# Altium footprint library SOIC127P600X175-16N.PcbLib: 1 footprints
Each footprint in its own frame and in the unit in brackets; x right, y up, seen from the top. Pads: shape width x height; smd on the part's side, far side on the other; paste and mask are expansions set on the pad; w line width, h text height; cw(c..) or ccw(c..) is an arc to the next point about the centre after c.
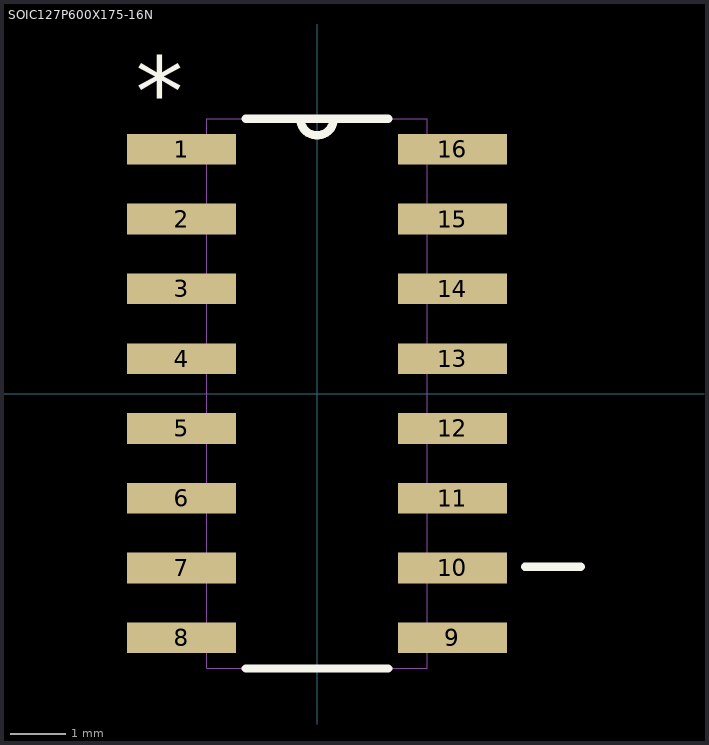
[diagram p0: the footprint, top view; thin cyan lines are the x and y axes]

## SOIC127P600X175-16N [mil]
pads (16):
  rect 78x22 smd: 1(-97,175) 2(-97,125) 3(-97,75) 4(-97,25) 5(-97,-25) 6(-97,-75) 7(-97,-125) 8(-97,-175) 9(97,-175) 10(97,-125) 11(97,-75) 12(97,-25) 13(97,25) 14(97,75) 15(97,125) 16(97,175)
Top Overlay:
  lines w6: -51,-197 51,-197 ; -51,197 -12,197 ; 51,197 12,197 ; 149,-124 189,-124 ; -12,197 ccw(c0,197) 12,197 ; -12,197 12,197
  text "*" at -130,192 h50
Mechanical 13:
  lines w0: -12,197 ccw(c0,197) 12,197 ; -12,197 -79,197 -79,-197 79,-197 79,197 12,197 ; -12,197 12,197 ; -122,-185 -79,-185 -79,-165 -122,-165 -122,-185 ; -122,-135 -79,-135 -79,-115 -122,-115 -122,-135 ; -122,-85 -79,-85 -79,-65 -122,-65 -122,-85 ; -122,-35 -79,-35 -79,-15 -122,-15 -122,-35 ; -122,15 -79,15 -79,35 -122,35 -122,15 ; -122,65 -79,65 -79,85 -122,85 -122,65 ; -122,115 -79,115 -79,135 -122,135 -122,115 ; -122,165 -79,165 -79,185 -122,185 -122,165 ; 79,-185 122,-185 122,-165 79,-165 79,-185 ; 79,-135 122,-135 122,-115 79,-115 79,-135 ; 79,-85 122,-85 122,-65 79,-65 79,-85 ; 79,-35 122,-35 122,-15 79,-15 79,-35 ; 79,15 122,15 122,35 79,35 79,15 ; 79,65 122,65 122,85 79,85 79,65 ; 79,115 122,115 122,135 79,135 79,115 ; 79,165 122,165 122,185 79,185 79,165
  text "*" at -130,192 h50
3D body "step_temp.STEP": height 68.9, standoff 0, extent -118.11,-194.88 118.11,194.88